# Altium footprint library Fasteners & Fixings.PcbLib: 118 footprints (part 4 of 8)
Each footprint in its own frame and in the unit in brackets; x right, y up, seen from the top. Pads: shape width x height; smd on the part's side, far side on the other; paste and mask are expansions set on the pad; w line width, h text height; cw(c..) or ccw(c..) is an arc to the next point about the centre after c.
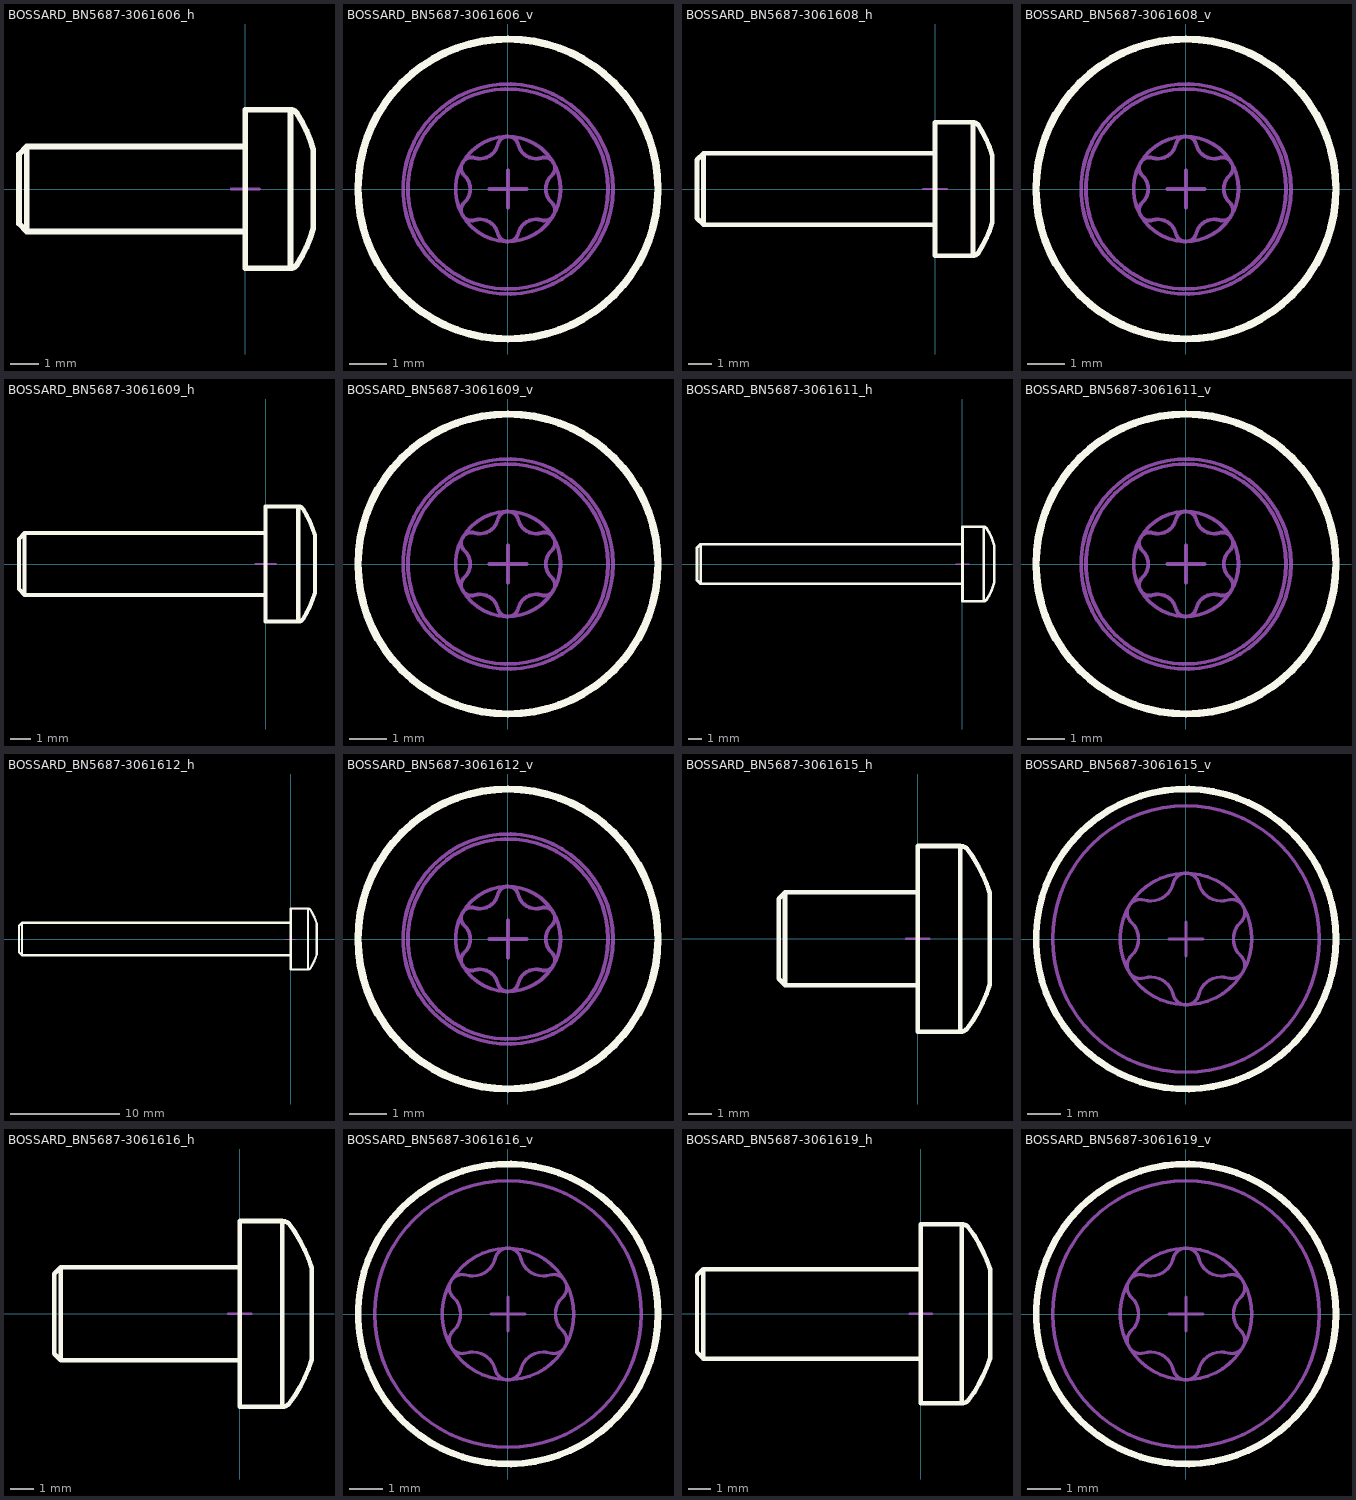
[diagram p3: the footprints below, top view; thin cyan lines are the x and y axes]

## BOSSARD_BN5687-3061606_h [mm] "M3 L=8mm Hexalobular Socket Pan Head Screw, Fully Threaded - Stainless Steel A2"
height 5.6
Top Overlay:
  lines w0.2: 0,-1.5 -7.724,-1.5 ; 0,1.5 -7.724,1.5 ; 1.828,2.669 ccw(c1.591,2.521) 1.591,2.8 ; 1.827,2.67 cw(c-2.4,0) 2.4,1.4 2.4,-1.4 cw(c-2.4,0) 1.828,-2.67 cw(c1.591,-2.52) 1.591,-2.8 ; -7.724,-1.5 -7.724,1.5 ; -7.724,-1.5 -8,-1.224 -8,1.224 -7.724,1.5 ; 1.591,-2.8 0,-2.8 0,2.8 1.591,2.8 ; 1.591,-2.8 1.591,2.8
Mechanical 8:
  lines w0.1: -0.5,0 0,0 ; 0,-0.5 0,0 ; 0,0.5 0,0 ; 0.5,0 0,0
Mechanical 14:
  lines w0.1: 0,-1.5 -7.724,-1.5 ; 0,1.5 -7.724,1.5 ; 1.828,2.669 ccw(c1.591,2.521) 1.591,2.8 ; 1.827,2.67 cw(c-2.4,0) 2.4,1.4 2.4,-1.4 cw(c-2.4,0) 1.828,-2.67 cw(c1.591,-2.52) 1.591,-2.8 ; -7.724,-1.5 -7.724,1.5 ; -7.724,-1.5 -8,-1.224 -8,1.224 -7.724,1.5 ; 1.591,-2.8 0,-2.8 0,2.8 1.591,2.8 ; 1.591,-2.8 1.591,2.8
3D body "BOSSARD_BN5687-3061606_h.stp": height 2.8, standoff -2.8, extent -8,-2.8 2.4,2.8

## BOSSARD_BN5687-3061606_v [mm] "M3 L=8mm Hexalobular Socket Pan Head Screw, Fully Threaded - Stainless Steel A2"
height 10.4
Top Overlay:
  circle w0.2: c0,0 r4
Mechanical 8:
  lines w0.1: -0.5,0 0,0 ; 0,-0.5 0,0 ; 0,0.5 0,0 ; 0.5,0 0,0
Mechanical 14:
  circle w0.1: c0,0 r2.669
  circle w0.1: c0,0 r1.4
  circle w0.1: c0,0 r2.8
  lines w0.1: -1.162,-0.356 ccw(c-1.498,0) -1.162,0.356 cw(c-0.97,0.56) -0.89,0.828 ccw(c-0.749,1.298) -0.272,1.185 cw(c0,1.12) 0.272,1.185 ccw(c0.749,1.298) 0.89,0.828 cw(c0.97,0.56) 1.162,0.356 ccw(c1.498,0) 1.162,-0.356 cw(c0.97,-0.56) 0.89,-0.828 ccw(c0.749,-1.298) 0.272,-1.185 cw(c0,-1.12) -0.272,-1.185 ccw(c-0.749,-1.298) -0.89,-0.828 cw(c-0.97,-0.56) -1.162,-0.356
3D body "BOSSARD_BN5687-3061606_v.stp": height 2.4, standoff -8, extent -2.8,-2.8 2.8,2.8

## BOSSARD_BN5687-3061608_h [mm] "M3 L=10mm Hexalobular Socket Pan Head Screw, Fully Threaded - Stainless Steel A2"
height 5.6
Top Overlay:
  lines w0.2: 0,-1.5 -9.724,-1.5 ; 0,1.5 -9.724,1.5 ; 1.828,2.669 ccw(c1.591,2.521) 1.591,2.8 ; 1.827,2.67 cw(c-2.4,0) 2.4,1.4 2.4,-1.4 cw(c-2.4,0) 1.828,-2.67 cw(c1.591,-2.52) 1.591,-2.8 ; -9.724,-1.5 -9.724,1.5 ; -9.724,-1.5 -10,-1.224 -10,1.224 -9.724,1.5 ; 1.591,-2.8 0,-2.8 0,2.8 1.591,2.8 ; 1.591,-2.8 1.591,2.8
Mechanical 8:
  lines w0.1: -0.5,0 0,0 ; 0,-0.5 0,0 ; 0,0.5 0,0 ; 0.5,0 0,0
Mechanical 14:
  lines w0.1: 0,-1.5 -9.724,-1.5 ; 0,1.5 -9.724,1.5 ; 1.828,2.669 ccw(c1.591,2.521) 1.591,2.8 ; 1.827,2.67 cw(c-2.4,0) 2.4,1.4 2.4,-1.4 cw(c-2.4,0) 1.828,-2.67 cw(c1.591,-2.52) 1.591,-2.8 ; -9.724,-1.5 -9.724,1.5 ; -9.724,-1.5 -10,-1.224 -10,1.224 -9.724,1.5 ; 1.591,-2.8 0,-2.8 0,2.8 1.591,2.8 ; 1.591,-2.8 1.591,2.8
3D body "BOSSARD_BN5687-3061608_h.stp": height 2.8, standoff -2.8, extent -10,-2.8 2.4,2.8

## BOSSARD_BN5687-3061608_v [mm] "M3 L=10mm Hexalobular Socket Pan Head Screw, Fully Threaded - Stainless Steel A2"
height 12.4
Top Overlay:
  circle w0.2: c0,0 r4
Mechanical 8:
  lines w0.1: -0.5,0 0,0 ; 0,-0.5 0,0 ; 0,0.5 0,0 ; 0.5,0 0,0
Mechanical 14:
  circle w0.1: c0,0 r2.669
  circle w0.1: c0,0 r1.4
  circle w0.1: c0,0 r2.8
  lines w0.1: -1.162,-0.356 ccw(c-1.498,0) -1.162,0.356 cw(c-0.97,0.56) -0.89,0.828 ccw(c-0.749,1.298) -0.272,1.185 cw(c0,1.12) 0.272,1.185 ccw(c0.749,1.298) 0.89,0.828 cw(c0.97,0.56) 1.162,0.356 ccw(c1.498,0) 1.162,-0.356 cw(c0.97,-0.56) 0.89,-0.828 ccw(c0.749,-1.298) 0.272,-1.185 cw(c0,-1.12) -0.272,-1.185 ccw(c-0.749,-1.298) -0.89,-0.828 cw(c-0.97,-0.56) -1.162,-0.356
3D body "BOSSARD_BN5687-3061608_v.stp": height 2.4, standoff -10, extent -2.8,-2.8 2.8,2.8

## BOSSARD_BN5687-3061609_h [mm] "M3 L=12mm Hexalobular Socket Pan Head Screw, Fully Threaded - Stainless Steel A2"
height 5.6
Top Overlay:
  lines w0.2: 0,-1.5 -11.724,-1.5 ; 0,1.5 -11.724,1.5 ; 1.828,2.669 ccw(c1.591,2.521) 1.591,2.8 ; 1.827,2.67 cw(c-2.4,0) 2.4,1.4 2.4,-1.4 cw(c-2.4,0) 1.828,-2.67 cw(c1.591,-2.52) 1.591,-2.8 ; -11.724,-1.5 -12,-1.224 -12,1.224 -11.724,1.5 ; -11.724,-1.5 -11.724,1.5 ; 1.591,-2.8 1.591,2.8 ; 1.591,-2.8 0,-2.8 0,2.8 1.591,2.8
Mechanical 8:
  lines w0.1: -0.5,0 0,0 ; 0,-0.5 0,0 ; 0,0.5 0,0 ; 0.5,0 0,0
Mechanical 14:
  lines w0.1: 0,-1.5 -11.724,-1.5 ; 0,1.5 -11.724,1.5 ; 1.828,2.669 ccw(c1.591,2.521) 1.591,2.8 ; 1.827,2.67 cw(c-2.4,0) 2.4,1.4 2.4,-1.4 cw(c-2.4,0) 1.828,-2.67 cw(c1.591,-2.52) 1.591,-2.8 ; -11.724,-1.5 -12,-1.224 -12,1.224 -11.724,1.5 ; -11.724,-1.5 -11.724,1.5 ; 1.591,-2.8 1.591,2.8 ; 1.591,-2.8 0,-2.8 0,2.8 1.591,2.8
3D body "BOSSARD_BN5687-3061609_h.stp": height 2.8, standoff -2.8, extent -12,-2.8 2.4,2.8

## BOSSARD_BN5687-3061609_v [mm] "M3 L=12mm Hexalobular Socket Pan Head Screw, Fully Threaded - Stainless Steel A2"
height 14.4
Top Overlay:
  circle w0.2: c0,0 r4
Mechanical 8:
  lines w0.1: -0.5,0 0,0 ; 0,-0.5 0,0 ; 0,0.5 0,0 ; 0.5,0 0,0
Mechanical 14:
  circle w0.1: c0,0 r2.8
  circle w0.1: c0,0 r1.4
  circle w0.1: c0,0 r2.669
  lines w0.1: -1.162,-0.356 ccw(c-0.97,-0.56) -0.89,-0.828 cw(c-0.749,-1.298) -0.272,-1.185 ccw(c0,-1.12) 0.272,-1.185 cw(c0.749,-1.298) 0.89,-0.828 ccw(c0.97,-0.56) 1.162,-0.356 cw(c1.498,0) 1.162,0.356 ccw(c0.97,0.56) 0.89,0.828 cw(c0.749,1.298) 0.272,1.185 ccw(c0,1.12) -0.272,1.185 cw(c-0.749,1.298) -0.89,0.828 ccw(c-0.97,0.56) -1.162,0.356 cw(c-1.498,0) -1.162,-0.356
3D body "BOSSARD_BN5687-3061609_v.stp": height 2.4, standoff -12, extent -2.8,-2.8 2.8,2.8

## BOSSARD_BN5687-3061611_h [mm] "M3 L=20mm Hexalobular Socket Pan Head Screw, Fully Threaded - Stainless Steel A2"
height 5.6
Top Overlay:
  lines w0.2: 0,-1.5 -19.724,-1.5 ; 0,1.5 -19.724,1.5 ; 1.828,2.669 ccw(c1.591,2.521) 1.591,2.8 ; 1.827,2.67 cw(c-2.4,0) 2.4,1.4 2.4,-1.4 cw(c-2.4,0) 1.828,-2.67 cw(c1.591,-2.52) 1.591,-2.8 ; -19.724,-1.5 -20,-1.224 -20,1.224 -19.724,1.5 ; -19.724,-1.5 -19.724,1.5 ; 1.591,-2.8 1.591,2.8 ; 1.591,-2.8 0,-2.8 0,2.8 1.591,2.8
Mechanical 8:
  lines w0.1: -0.5,0 0,0 ; 0,-0.5 0,0 ; 0,0.5 0,0 ; 0.5,0 0,0
Mechanical 14:
  lines w0.1: 0,-1.5 -19.724,-1.5 ; 0,1.5 -19.724,1.5 ; 1.828,2.669 ccw(c1.591,2.521) 1.591,2.8 ; 1.827,2.67 cw(c-2.4,0) 2.4,1.4 2.4,-1.4 cw(c-2.4,0) 1.828,-2.67 cw(c1.591,-2.52) 1.591,-2.8 ; -19.724,-1.5 -20,-1.224 -20,1.224 -19.724,1.5 ; -19.724,-1.5 -19.724,1.5 ; 1.591,-2.8 1.591,2.8 ; 1.591,-2.8 0,-2.8 0,2.8 1.591,2.8
3D body "BOSSARD_BN5687-3061611_h.stp": height 2.8, standoff -2.8, extent -20,-2.8 2.4,2.8

## BOSSARD_BN5687-3061611_v [mm] "M3 L=20mm Hexalobular Socket Pan Head Screw, Fully Threaded - Stainless Steel A2"
height 22.4
Top Overlay:
  circle w0.2: c0,0 r4
Mechanical 8:
  lines w0.1: -0.5,0 0,0 ; 0,-0.5 0,0 ; 0,0.5 0,0 ; 0.5,0 0,0
Mechanical 14:
  circle w0.1: c0,0 r2.669
  circle w0.1: c0,0 r1.4
  circle w0.1: c0,0 r2.8
  lines w0.1: -1.162,-0.356 ccw(c-1.498,0) -1.162,0.356 cw(c-0.97,0.56) -0.89,0.828 ccw(c-0.749,1.298) -0.272,1.185 cw(c0,1.12) 0.272,1.185 ccw(c0.749,1.298) 0.89,0.828 cw(c0.97,0.56) 1.162,0.356 ccw(c1.498,0) 1.162,-0.356 cw(c0.97,-0.56) 0.89,-0.828 ccw(c0.749,-1.298) 0.272,-1.185 cw(c0,-1.12) -0.272,-1.185 ccw(c-0.749,-1.298) -0.89,-0.828 cw(c-0.97,-0.56) -1.162,-0.356
3D body "BOSSARD_BN5687-3061611_v.stp": height 2.4, standoff -20, extent -2.8,-2.8 2.8,2.8

## BOSSARD_BN5687-3061612_h [mm] "M3 L=25mm Hexalobular Socket Pan Head Screw, Fully Threaded - Stainless Steel A2"
height 5.6
Top Overlay:
  lines w0.2: 0,-1.5 -24.724,-1.5 ; 0,1.5 -24.724,1.5 ; 1.828,2.669 ccw(c1.591,2.521) 1.591,2.8 ; 1.827,2.67 cw(c-2.4,0) 2.4,1.4 2.4,-1.4 cw(c-2.4,0) 1.828,-2.67 cw(c1.591,-2.52) 1.591,-2.8 ; -24.724,-1.5 -25,-1.224 -25,1.224 -24.724,1.5 ; -24.724,-1.5 -24.724,1.5 ; 1.591,-2.8 1.591,2.8 ; 1.591,-2.8 0,-2.8 0,2.8 1.591,2.8
Mechanical 8:
  lines w0.1: -0.5,0 0,0 ; 0,-0.5 0,0 ; 0,0.5 0,0 ; 0.5,0 0,0
Mechanical 14:
  lines w0.1: 0,-1.5 -24.724,-1.5 ; 0,1.5 -24.724,1.5 ; 1.828,2.669 ccw(c1.591,2.521) 1.591,2.8 ; 1.827,2.67 cw(c-2.4,0) 2.4,1.4 2.4,-1.4 cw(c-2.4,0) 1.828,-2.67 cw(c1.591,-2.52) 1.591,-2.8 ; -24.724,-1.5 -25,-1.224 -25,1.224 -24.724,1.5 ; -24.724,-1.5 -24.724,1.5 ; 1.591,-2.8 1.591,2.8 ; 1.591,-2.8 0,-2.8 0,2.8 1.591,2.8
3D body "BOSSARD_BN5687-3061612_h.stp": height 2.8, standoff -2.8, extent -25,-2.798 2.4,2.8

## BOSSARD_BN5687-3061612_v [mm] "M3 L=25mm Hexalobular Socket Pan Head Screw, Fully Threaded - Stainless Steel A2"
height 27.4
Top Overlay:
  circle w0.2: c0,0 r4
Mechanical 8:
  lines w0.1: -0.5,0 0,0 ; 0,-0.5 0,0 ; 0,0.5 0,0 ; 0.5,0 0,0
Mechanical 14:
  circle w0.1: c0,0 r2.669
  circle w0.1: c0,0 r1.4
  circle w0.1: c0,0 r2.8
  lines w0.1: -1.162,-0.356 ccw(c-1.498,0) -1.162,0.356 cw(c-0.97,0.56) -0.89,0.828 ccw(c-0.749,1.298) -0.272,1.185 cw(c0,1.12) 0.272,1.185 ccw(c0.749,1.298) 0.89,0.828 cw(c0.97,0.56) 1.162,0.356 ccw(c1.498,0) 1.162,-0.356 cw(c0.97,-0.56) 0.89,-0.828 ccw(c0.749,-1.298) 0.272,-1.185 cw(c0,-1.12) -0.272,-1.185 ccw(c-0.749,-1.298) -0.89,-0.828 cw(c-0.97,-0.56) -1.162,-0.356
3D body "BOSSARD_BN5687-3061612_v.stp": height 2.4, standoff -25, extent -2.8,-2.798 2.8,2.8

## BOSSARD_BN5687-3061615_h [mm] "M4 L=6mm Hexalobular Socket Pan Head Screw, Fully Threaded - Stainless Steel A2"
height 8
Top Overlay:
  lines w0.2: 0,-2 -5.724,-2 ; 0,2 -5.724,2 ; -5.724,-2 -6,-1.724 -6,1.724 -5.724,2 ; -5.724,-2 -5.724,2 ; 1.831,-4 ccw(c1.83,-3.599) 2.123,-3.872 ccw(c-3.056,-0.011) 3.098,-1.975 3.098,1.975 ccw(c-3.027,0.026) 2.123,3.872 ccw(c1.826,3.592) 1.831,4 ; 1.831,-4 0,-4 0,4 1.831,4 ; 1.831,-4 1.831,4
Mechanical 8:
  lines w0.1: -0.5,0 0,0 ; 0,-0.5 0,0 ; 0,0.5 0,0 ; 0.5,0 0,0
Mechanical 14:
  lines w0.1: 0,-2 -5.724,-2 ; 0,2 -5.724,2 ; -5.724,-2 -6,-1.724 -6,1.724 -5.724,2 ; -5.724,-2 -5.724,2 ; 1.831,-4 ccw(c1.83,-3.599) 2.123,-3.872 ccw(c-3.056,-0.011) 3.098,-1.975 3.098,1.975 ccw(c-3.027,0.026) 2.123,3.872 ccw(c1.826,3.592) 1.831,4 ; 1.831,-4 0,-4 0,4 1.831,4 ; 1.831,-4 1.831,4
3D body "BOSSARD_BN5687-3061615_h.stp": height 4, standoff -4, extent -6,-4 3.1,4

## BOSSARD_BN5687-3061615_v [mm] "M4 L=6mm Hexalobular Socket Pan Head Screw, Fully Threaded - Stainless Steel A2"
height 9.1
Top Overlay:
  circle w0.2: c0,0 r4.5
Mechanical 8:
  lines w0.1: -0.5,0 0,0 ; 0,-0.5 0,0 ; 0,0.5 0,0 ; 0.5,0 0,0
Mechanical 14:
  circle w0.1: c0,0 r1.975
  circle w0.1: c0,0 r4
  lines w0.1: -1.639,-0.503 ccw(c-1.368,-0.79) -1.255,-1.168 cw(c-1.057,-1.831) -0.384,-1.671 ccw(c0,-1.58) 0.384,-1.671 cw(c1.057,-1.831) 1.255,-1.168 ccw(c1.368,-0.79) 1.639,-0.503 cw(c2.114,0) 1.639,0.503 ccw(c1.368,0.79) 1.255,1.168 cw(c1.057,1.831) 0.384,1.671 ccw(c0,1.58) -0.384,1.671 cw(c-1.057,1.831) -1.255,1.168 ccw(c-1.368,0.79) -1.639,0.503 cw(c-2.114,0) -1.639,-0.503
3D body "BOSSARD_BN5687-3061615_v.stp": height 3.1, standoff -6, extent -4,-4 4,4

## BOSSARD_BN5687-3061616_h [mm] "M4 L=8mm Hexalobular Socket Pan Head Screw, Fully Threaded - Stainless Steel A2"
height 8
Top Overlay:
  lines w0.2: 0,-2 -7.724,-2 ; 0,2 -7.724,2 ; -7.724,-2 -8,-1.724 -8,1.724 -7.724,2 ; -7.724,-2 -7.724,2 ; 1.831,-4 ccw(c1.83,-3.599) 2.123,-3.872 ccw(c-3.056,-0.011) 3.098,-1.975 3.098,1.975 ccw(c-3.027,0.026) 2.123,3.872 ccw(c1.826,3.592) 1.831,4 ; 1.831,-4 0,-4 0,4 1.831,4 ; 1.831,-4 1.831,4
Mechanical 8:
  lines w0.1: -0.5,0 0,0 ; 0,-0.5 0,0 ; 0,0.5 0,0 ; 0.5,0 0,0
Mechanical 14:
  lines w0.1: 0,-2 -7.724,-2 ; 0,2 -7.724,2 ; -7.724,-2 -8,-1.724 -8,1.724 -7.724,2 ; -7.724,-2 -7.724,2 ; 1.831,-4 ccw(c1.83,-3.599) 2.123,-3.872 ccw(c-3.056,-0.011) 3.098,-1.975 3.098,1.975 ccw(c-3.027,0.026) 2.123,3.872 ccw(c1.826,3.592) 1.831,4 ; 1.831,-4 0,-4 0,4 1.831,4 ; 1.831,-4 1.831,4
3D body "BOSSARD_BN5687-3061616_h.stp": height 4, standoff -4, extent -8,-4 3.1,4

## BOSSARD_BN5687-3061616_v [mm] "M4 L=8mm Hexalobular Socket Pan Head Screw, Fully Threaded - Stainless Steel A2"
height 11.1
Top Overlay:
  circle w0.2: c0,0 r4.5
Mechanical 8:
  lines w0.1: -0.5,0 0,0 ; 0,-0.5 0,0 ; 0,0.5 0,0 ; 0.5,0 0,0
Mechanical 14:
  circle w0.1: c0,0 r4
  circle w0.1: c0,0 r1.975
  lines w0.1: -1.639,-0.503 ccw(c-2.114,0) -1.639,0.503 cw(c-1.368,0.79) -1.255,1.168 ccw(c-1.057,1.831) -0.384,1.671 cw(c0,1.58) 0.384,1.671 ccw(c1.057,1.831) 1.255,1.168 cw(c1.368,0.79) 1.639,0.503 ccw(c2.114,0) 1.639,-0.503 cw(c1.368,-0.79) 1.255,-1.168 ccw(c1.057,-1.831) 0.384,-1.671 cw(c0,-1.58) -0.384,-1.671 ccw(c-1.057,-1.831) -1.255,-1.168 cw(c-1.368,-0.79) -1.639,-0.503
3D body "BOSSARD_BN5687-3061616_v.stp": height 3.1, standoff -8, extent -4,-4 4,4

## BOSSARD_BN5687-3061619_h [mm] "M4 L=10mm Hexalobular Socket Pan Head Screw, Fully Threaded - Stainless Steel A2"
height 8
Top Overlay:
  lines w0.2: 0,-2 -9.724,-2 ; 0,2 -9.724,2 ; -9.724,-2 -9.724,2 ; -9.724,-2 -10,-1.724 -10,1.724 -9.724,2 ; 1.831,-4 ccw(c1.83,-3.599) 2.123,-3.872 ccw(c-3.056,-0.011) 3.098,-1.975 3.098,1.975 ccw(c-3.027,0.026) 2.123,3.872 ccw(c1.826,3.592) 1.831,4 ; 1.831,-4 1.831,4 ; 1.831,-4 0,-4 0,4 1.831,4
Mechanical 8:
  lines w0.1: -0.5,0 0,0 ; 0,-0.5 0,0 ; 0,0.5 0,0 ; 0.5,0 0,0
Mechanical 14:
  lines w0.1: 0,-2 -9.724,-2 ; 0,2 -9.724,2 ; -9.724,-2 -9.724,2 ; -9.724,-2 -10,-1.724 -10,1.724 -9.724,2 ; 1.831,-4 ccw(c1.83,-3.599) 2.123,-3.872 ccw(c-3.056,-0.011) 3.098,-1.975 3.098,1.975 ccw(c-3.027,0.026) 2.123,3.872 ccw(c1.826,3.592) 1.831,4 ; 1.831,-4 1.831,4 ; 1.831,-4 0,-4 0,4 1.831,4
3D body "BOSSARD_BN5687-3061619_h.stp": height 4, standoff -4, extent -10,-4 3.1,4

## BOSSARD_BN5687-3061619_v [mm] "M4 L=10mm Hexalobular Socket Pan Head Screw, Fully Threaded - Stainless Steel A2"
height 13.1
Top Overlay:
  circle w0.2: c0,0 r4.5
Mechanical 8:
  lines w0.1: -0.5,0 0,0 ; 0,-0.5 0,0 ; 0,0.5 0,0 ; 0.5,0 0,0
Mechanical 14:
  circle w0.1: c0,0 r1.975
  circle w0.1: c0,0 r4
  lines w0.1: -1.639,-0.503 ccw(c-1.368,-0.79) -1.255,-1.168 cw(c-1.057,-1.831) -0.384,-1.671 ccw(c0,-1.58) 0.384,-1.671 cw(c1.057,-1.831) 1.255,-1.168 ccw(c1.368,-0.79) 1.639,-0.503 cw(c2.114,0) 1.639,0.503 ccw(c1.368,0.79) 1.255,1.168 cw(c1.057,1.831) 0.384,1.671 ccw(c0,1.58) -0.384,1.671 cw(c-1.057,1.831) -1.255,1.168 ccw(c-1.368,0.79) -1.639,0.503 cw(c-2.114,0) -1.639,-0.503
3D body "BOSSARD_BN5687-3061619_v.stp": height 3.1, standoff -10, extent -4,-4 4,4